# EAGLE library part SPARKFUN_OPTO_SSRELAY_OMRON_G3VM-61E1 (library VIPR_Components)
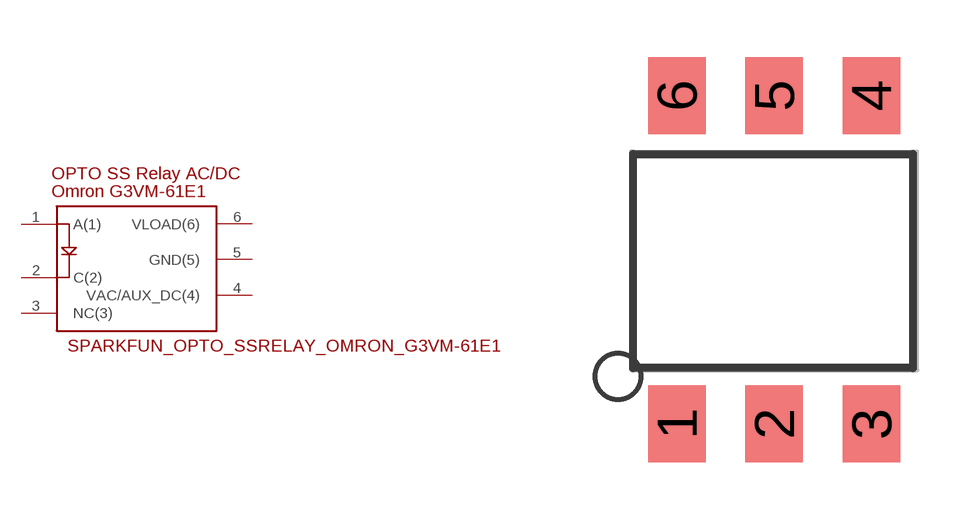
[diagram p2: symbol with the pads of SPARKFUN_6-SMD_OMRON_SSRELAY; footprint SPARKFUN_6-SMD_OMRON_SSRELAY]

Designator prefix -

## SPARKFUN_OPTO_SSRELAY_OMRON_G3VM-61E1  [SPARKFUN_6-SMD_OMRON_SSRELAY]
1  A(1)
2  C(2)
3  NC(3)
4  VAC/AUX_DC(4)
5  GND(5)
6  VLOAD(6)

## Footprint SPARKFUN_6-SMD_OMRON_SSRELAY (pad centres in mm)
smd 1.5 x 2: 1 -3.81,-5.08; 2 -1.27,-5.08; 3 1.27,-5.08; 4 1.27,3.493; 5 -1.27,3.493; 6 -3.81,3.493